# EAGLE library part TL431CD (library stabilizatory)
VOLTAGE REFERENCE
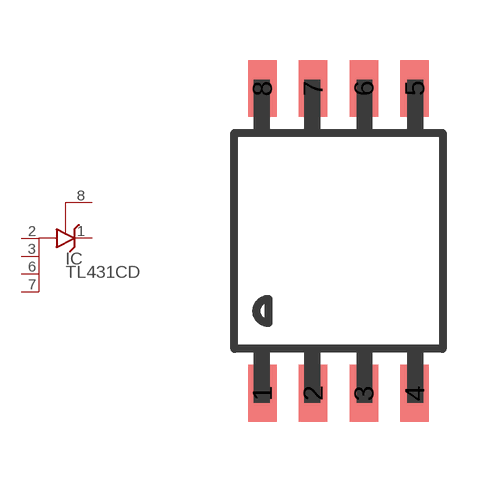
[diagram p26: symbol with the pads of SO8; footprint SO8]

Designator prefix IC

## TL431CD  [SO8]
1  C  pas
2  A  pas
3  A1  pas
6  A2  pas
7  A3  pas
8  R  pas

## Footprint SO8 (pad centres in mm)
SO8 Package
smd 0.711 x 1.422: 1 -1.905,-3.81; 2 -0.635,-3.81; 3 0.635,-3.81; 4 1.905,-3.81; 5 1.905,3.81; 6 0.635,3.81; 7 -0.635,3.81; 8 -1.905,3.81